# Altium schematic symbol library IC.SchLib: 7 symbols
Pins are listed as number, name and electrical type; pins without a type are passive.

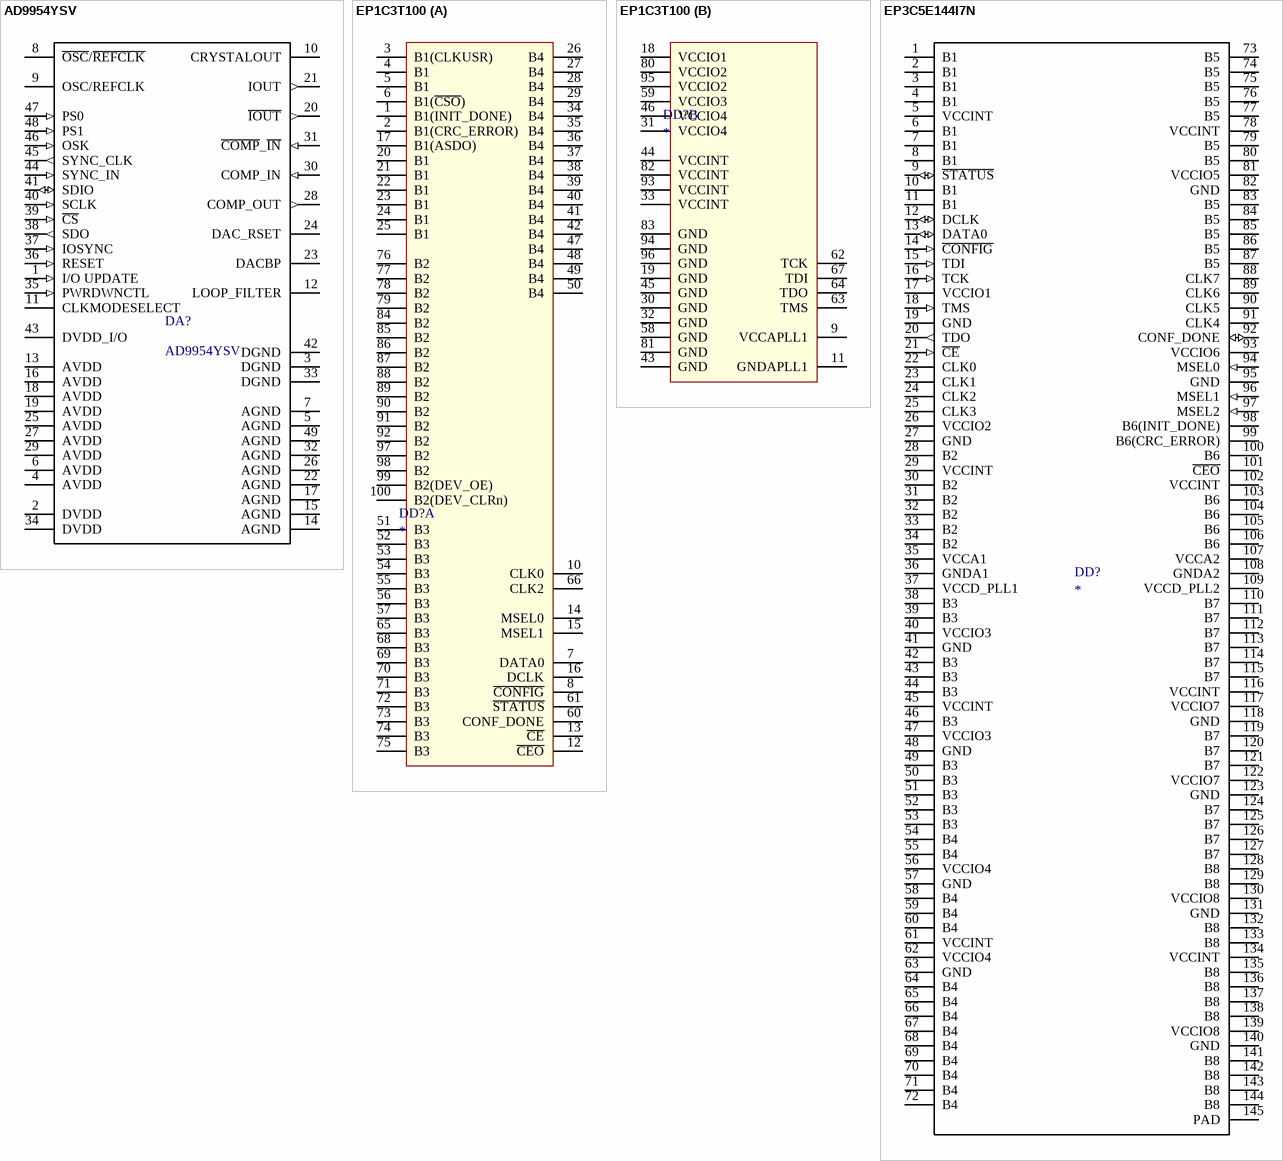
[diagram p0: symbols AD9954YSV to EP3C5E144I7N]

## AD9954YSV
designator DA?
IC 400MSps DDS; Аналог: нет; Описание: Микросхема TQFP48
footprint TQFP48EP_AD9954
pins: 1 I/O UPDATE (in), 2 DVDD , 3 DGND, 4 AVDD, 5 AGND, 6 AVDD, 7 AGND, 8 ~{OSC}/~{REFCLK}, 9 OSC/REFCLK, 10 CRYSTALOUT, 11 CLKMODESELECT, 12 LOOP_FILTER, 13 AVDD, 14 AGND, 15 AGND, 16 AVDD, 17 AGND, 18 AVDD, 19 AVDD, 20 ~{IOUT} (out), 21 IOUT (out), 22 AGND, 23 DACBP, 24 DAC_RSET, 25 AVDD, 26 AGND, 27 AVDD, 28 COMP_OUT (out), 29 AVDD, 30 COMP_IN (in), 31 ~{COMP}_~{IN} (in), 32 AGND, 33 DGND, 34 DVDD  (power), 35 PWRDWNCTL (in), 36 RESET (in), 37 IOSYNC (in), 38 SDO (out), 39 ~{CS} (in), 40 SCLK (in), 41 SDIO (io), 42 DGND, 43 DVDD_I/O (power), 44 SYNC_IN (in), 45 SYNC_CLK (out), 46 OSK (in), 47 PS0 (in), 48 PS1 (in), 49 AGND

## EP1C3T100
designator DD?
IC Altera Cyclone1 FPGA; Описание: ???; Аналог: нет
footprint TQFP100
part A pins: 1 B1(INIT_DONE), 2 B1(CRC_ERROR), 3 B1(CLKUSR), 4 B1, 5 B1, 6 B1(~{CSO}), 7 DATA0, 8 ~{CONFIG}, 10 CLK0, 12 ~{CEO}, 13 ~{CE}, 14 MSEL0, 15 MSEL1, 16 DCLK, 17 B1(ASDO), 20 B1, 21 B1, 22 B1, 23 B1, 24 B1, 25 B1, 26 B4, 27 B4, 28 B4, 29 B4, 34 B4, 35 B4, 36 B4, 37 B4, 38 B4, 39 B4, 40 B4, 41 B4, 42 B4, 47 B4, 48 B4, 49 B4, 50 B4, 51 B3, 52 B3, 53 B3, 54 B3, 55 B3, 56 B3, 57 B3, 60 CONF_DONE, 61 ~{STATUS}, 65 B3, 66 CLK2, 68 B3, 69 B3, 70 B3, 71 B3, 72 B3, 73 B3, 74 B3, 75 B3, 76 B2, 77 B2, 78 B2, 79 B2, 84 B2, 85 B2, 86 B2, 87 B2, 88 B2, 89 B2, 90 B2, 91 B2, 92 B2, 97 B2, 98 B2, 99 B2(DEV_OE), 100 B2(DEV_CLRn)
part B pins: 9 VCCAPLL1, 11 GNDAPLL1, 18 VCCIO1, 19 GND, 30 GND, 31 VCCIO4, 32 GND, 33 VCCINT, 43 GND, 44 VCCINT, 45 GND, 46 VCCIO4, 58 GND, 59 VCCIO3, 62 TCK, 63 TMS, 64 TDO, 67 TDI, 80 VCCIO2, 81 GND, 82 VCCINT, 83 GND, 93 VCCINT, 94 GND, 95 VCCIO2, 96 GND

## EP3C5E144I7N
designator DD?
IC Cyclone III; Описание: Микросхема EQFP144; Аналог: нет
footprint EQFP144_EP3C5
pins: 1 B1, 2 B1, 3 B1, 4 B1, 5 VCCINT, 6 B1, 7 B1, 8 B1, 9 ~{STATUS} (io), 10 B1, 11 B1, 12 DCLK (io), 13 DATA0 (io), 14 ~{CONFIG} (in), 15 TDI (in), 16 TCK (in), 17 VCCIO1, 18 TMS (in), 19 GND, 20 TDO (out), 21 ~{CE} (in), 22 CLK0, 23 CLK1, 24 CLK2, 25 CLK3, 26 VCCIO2, 27 GND, 28 B2, 29 VCCINT, 30 B2, 31 B2, 32 B2, 33 B2, 34 B2, 35 VCCA1, 36 GNDA1, 37 VCCD_PLL1, 38 B3, 39 B3, 40 VCCIO3, 41 GND, 42 B3, 43 B3, 44 B3, 45 VCCINT, 46 B3, 47 VCCIO3, 48 GND, 49 B3, 50 B3, 51 B3, 52 B3, 53 B3, 54 B4, 55 B4, 56 VCCIO4, 57 GND, 58 B4, 59 B4, 60 B4, 61 VCCINT, 62 VCCIO4, 63 GND, 64 B4, 65 B4, 66 B4, 67 B4, 68 B4, 69 B4, 70 B4, 71 B4, 72 B4, 73 B5, 74 B5, 75 B5, 76 B5, 77 B5, 78 VCCINT, 79 B5, 80 B5, 81 VCCIO5, 82 GND, 83 B5, 84 B5, 85 B5, 86 B5, 87 B5, 88 CLK7, 89 CLK6, 90 CLK5, 91 CLK4, 92 CONF_DONE (io), 93 VCCIO6, 94 MSEL0 (in), 95 GND, 96 MSEL1 (in), 97 MSEL2 (in), 98 B6(INIT_DONE), 99 B6(CRC_ERROR), 100 B6, 101 ~{CEO}, 102 VCCINT, 103 B6, 104 B6, 105 B6, 106 B6, 107 VCCA2, 108 GNDA2, 109 VCCD_PLL2, 110 B7, 111 B7, 112 B7, 113 B7, 114 B7, 115 B7, 116 VCCINT, 117 VCCIO7, 118 GND, 119 B7, 120 B7, 121 B7, 122 VCCIO7, 123 GND, 124 B7, 125 B7, 126 B7, 127 B7, 128 B8, 129 B8, 130 VCCIO8, 131 GND, 132 B8, 133 B8, 134 VCCINT, 135 B8, 136 B8, 137 B8, 138 B8, 139 VCCIO8, 140 GND, 141 B8, 142 B8, 143 B8, 144 B8, 145 PAD

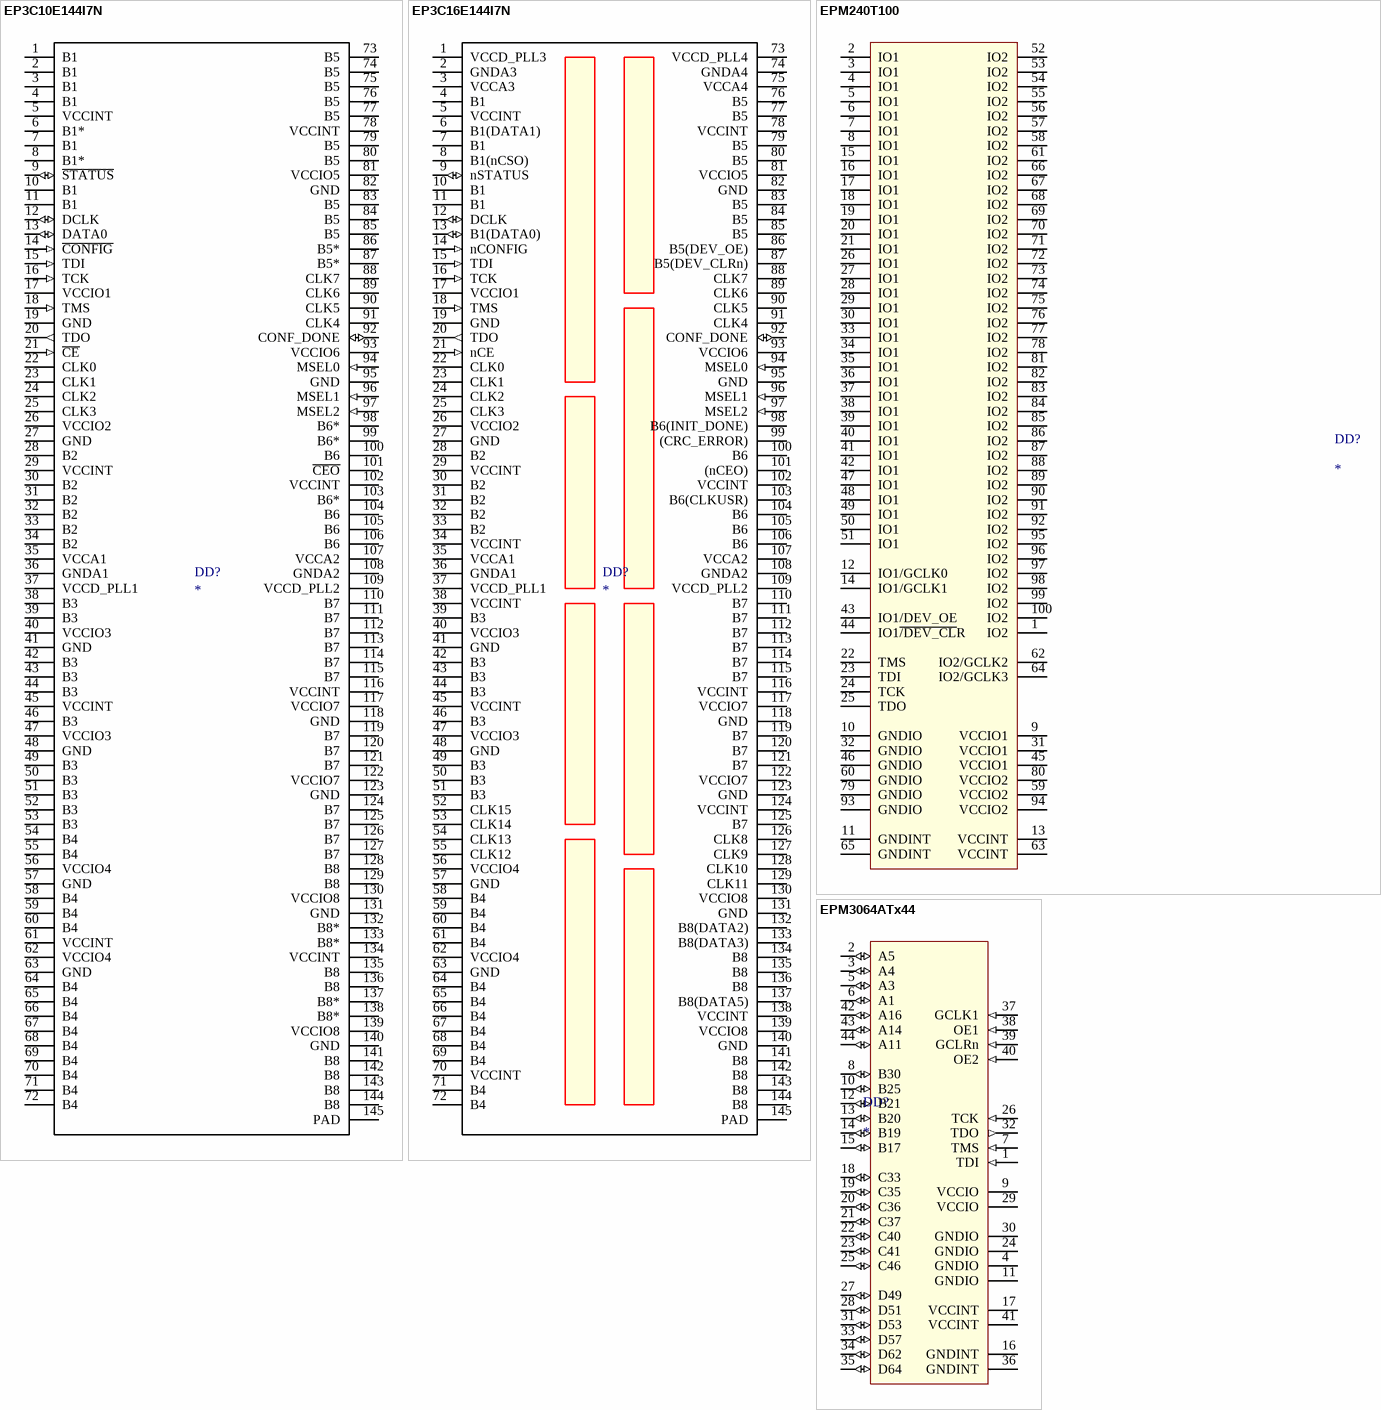
[diagram p1: symbols EP3C10E144I7N to EPM3064ATx44]

## EP3C10E144I7N
designator DD?
IC Cyclone III; Описание: Микросхема EQFP144; Аналог: нет
footprint EQFP144_EP3C5
pins: 1 B1, 2 B1, 3 B1, 4 B1, 5 VCCINT, 6 B1*, 7 B1, 8 B1*, 9 ~{STATUS} (io), 10 B1, 11 B1, 12 DCLK (io), 13 DATA0 (io), 14 ~{CONFIG} (in), 15 TDI (in), 16 TCK (in), 17 VCCIO1, 18 TMS (in), 19 GND, 20 TDO (out), 21 ~{CE} (in), 22 CLK0, 23 CLK1, 24 CLK2, 25 CLK3, 26 VCCIO2, 27 GND, 28 B2, 29 VCCINT, 30 B2, 31 B2, 32 B2, 33 B2, 34 B2, 35 VCCA1, 36 GNDA1, 37 VCCD_PLL1, 38 B3, 39 B3, 40 VCCIO3, 41 GND, 42 B3, 43 B3, 44 B3, 45 VCCINT, 46 B3, 47 VCCIO3, 48 GND, 49 B3, 50 B3, 51 B3, 52 B3, 53 B3, 54 B4, 55 B4, 56 VCCIO4, 57 GND, 58 B4, 59 B4, 60 B4, 61 VCCINT, 62 VCCIO4, 63 GND, 64 B4, 65 B4, 66 B4, 67 B4, 68 B4, 69 B4, 70 B4, 71 B4, 72 B4, 73 B5, 74 B5, 75 B5, 76 B5, 77 B5, 78 VCCINT, 79 B5, 80 B5, 81 VCCIO5, 82 GND, 83 B5, 84 B5, 85 B5, 86 B5*, 87 B5*, 88 CLK7, 89 CLK6, 90 CLK5, 91 CLK4, 92 CONF_DONE (io), 93 VCCIO6, 94 MSEL0 (in), 95 GND, 96 MSEL1 (in), 97 MSEL2 (in), 98 B6*, 99 B6*, 100 B6, 101 ~{CEO}, 102 VCCINT, 103 B6*, 104 B6, 105 B6, 106 B6, 107 VCCA2, 108 GNDA2, 109 VCCD_PLL2, 110 B7, 111 B7, 112 B7, 113 B7, 114 B7, 115 B7, 116 VCCINT, 117 VCCIO7, 118 GND, 119 B7, 120 B7, 121 B7, 122 VCCIO7, 123 GND, 124 B7, 125 B7, 126 B7, 127 B7, 128 B8, 129 B8, 130 VCCIO8, 131 GND, 132 B8*, 133 B8*, 134 VCCINT, 135 B8, 136 B8, 137 B8*, 138 B8*, 139 VCCIO8, 140 GND, 141 B8, 142 B8, 143 B8, 144 B8, 145 PAD

## EP3C16E144I7N
designator DD?
IC Cyclone III; Описание: Микросхема EQFP144; Аналог: нет
footprint EQFP144_EP3C25
pins: 1 VCCD_PLL3, 2 GNDA3, 3 VCCA3, 4 B1, 5 VCCINT, 6 B1(DATA1), 7 B1, 8 B1(nCSO), 9 nSTATUS (io), 10 B1, 11 B1, 12 DCLK (io), 13 B1(DATA0) (io), 14 nCONFIG (in), 15 TDI (in), 16 TCK (in), 17 VCCIO1, 18 TMS (in), 19 GND, 20 TDO (out), 21 nCE (in), 22 CLK0, 23 CLK1, 24 CLK2, 25 CLK3, 26 VCCIO2, 27 GND, 28 B2, 29 VCCINT, 30 B2, 31 B2, 32 B2, 33 B2, 34 VCCINT, 35 VCCA1, 36 GNDA1, 37 VCCD_PLL1, 38 VCCINT, 39 B3, 40 VCCIO3, 41 GND, 42 B3, 43 B3, 44 B3, 45 VCCINT, 46 B3, 47 VCCIO3, 48 GND, 49 B3, 50 B3, 51 B3, 52 CLK15, 53 CLK14, 54 CLK13, 55 CLK12, 56 VCCIO4, 57 GND, 58 B4, 59 B4, 60 B4, 61 B4, 62 VCCIO4, 63 GND, 64 B4, 65 B4, 66 B4, 67 B4, 68 B4, 69 B4, 70 VCCINT, 71 B4, 72 B4, 73 VCCD_PLL4, 74 GNDA4, 75 VCCA4, 76 B5, 77 B5, 78 VCCINT, 79 B5, 80 B5, 81 VCCIO5, 82 GND, 83 B5, 84 B5, 85 B5, 86 B5(DEV_OE), 87 B5(DEV_CLRn), 88 CLK7, 89 CLK6, 90 CLK5, 91 CLK4, 92 CONF_DONE (io), 93 VCCIO6, 94 MSEL0 (in), 95 GND, 96 MSEL1 (in), 97 MSEL2 (in), 98 B6(INIT_DONE), 99 (CRC_ERROR), 100 B6, 101 (nCEO), 102 VCCINT, 103 B6(CLKUSR), 104 B6, 105 B6, 106 B6, 107 VCCA2, 108 GNDA2, 109 VCCD_PLL2, 110 B7, 111 B7, 112 B7, 113 B7, 114 B7, 115 B7, 116 VCCINT, 117 VCCIO7, 118 GND, 119 B7, 120 B7, 121 B7, 122 VCCIO7, 123 GND, 124 VCCINT, 125 B7, 126 CLK8, 127 CLK9, 128 CLK10, 129 CLK11, 130 VCCIO8, 131 GND, 132 B8(DATA2), 133 B8(DATA3), 134 B8, 135 B8, 136 B8, 137 B8(DATA5), 138 VCCINT, 139 VCCIO8, 140 GND, 141 B8, 142 B8, 143 B8, 144 B8, 145 PAD

## EPM240T100
designator DD?
IC MAXII CPLD; Описание: ???; Аналог: нет
footprint TQFP100
pins: 1 IO2, 2 IO1, 3 IO1, 4 IO1, 5 IO1, 6 IO1, 7 IO1, 8 IO1, 9 VCCIO1, 10 GNDIO, 11 GNDINT, 12 IO1/GCLK0, 13 VCCINT, 14 IO1/GCLK1, 15 IO1, 16 IO1, 17 IO1, 18 IO1, 19 IO1, 20 IO1, 21 IO1, 22 TMS, 23 TDI, 24 TCK, 25 TDO, 26 IO1, 27 IO1, 28 IO1, 29 IO1, 30 IO1, 31 VCCIO1, 32 GNDIO, 33 IO1, 34 IO1, 35 IO1, 36 IO1, 37 IO1, 38 IO1, 39 IO1, 40 IO1, 41 IO1, 42 IO1, 43 IO1/DEV_OE, 44 IO1~{/DEV_CL}R, 45 VCCIO1, 46 GNDIO, 47 IO1, 48 IO1, 49 IO1, 50 IO1, 51 IO1, 52 IO2, 53 IO2, 54 IO2, 55 IO2, 56 IO2, 57 IO2, 58 IO2, 59 VCCIO2, 60 GNDIO, 61 IO2, 62 IO2/GCLK2, 63 VCCINT, 64 IO2/GCLK3, 65 GNDINT, 66 IO2, 67 IO2, 68 IO2, 69 IO2, 70 IO2, 71 IO2, 72 IO2, 73 IO2, 74 IO2, 75 IO2, 76 IO2, 77 IO2, 78 IO2, 79 GNDIO, 80 VCCIO2, 81 IO2, 82 IO2, 83 IO2, 84 IO2, 85 IO2, 86 IO2, 87 IO2, 88 IO2, 89 IO2, 90 IO2, 91 IO2, 92 IO2, 93 GNDIO, 94 VCCIO2, 95 IO2, 96 IO2, 97 IO2, 98 IO2, 99 IO2, 100 IO2

## EPM3064ATx44
designator DD?
IC Low-cost CMOS EEPROM–based CPLD; Описание: ???; Аналог: нет
footprint TQFP44_EPM30xxA
pins: 1 TDI (in), 2 A5 (io), 3 A4 (io), 4 GNDIO (power), 5 A3 (io), 6 A1 (io), 7 TMS (in), 8 B30 (io), 9 VCCIO (power), 10 B25 (io), 11 GNDIO (power), 12 B21 (io), 13 B20 (io), 14 B19 (io), 15 B17 (io), 16 GNDINT (power), 17 VCCINT (power), 18 C33 (io), 19 C35 (io), 20 C36 (io), 21 C37 (io), 22 C40 (io), 23 C41 (io), 24 GNDIO (power), 25 C46 (io), 26 TCK (in), 27 D49 (io), 28 D51 (io), 29 VCCIO (power), 30 GNDIO (power), 31 D53 (io), 32 TDO (out), 33 D57 (io), 34 D62 (io), 35 D64 (io), 36 GNDINT (power), 37 GCLK1 (in), 38 OE1 (in), 39 GCLRn (in), 40 OE2 (in), 41 VCCINT (power), 42 A16 (io), 43 A14 (io), 44 A11 (io)